# Altium schematic symbol library NPN_SOT_23_Transistor.SchLib: 1 symbol
Pins are listed as number, name and electrical type; pins without a type are passive.

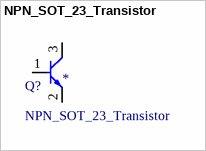
[diagram p0: symbol NPN_SOT_23_Transistor]

## NPN_SOT_23_Transistor
designator Q?
LCSC: *
footprint NPN_SOT_23_Transistor
pins: 1 B, 2 E, 3 C